# Altium schematic symbol library Turbine_Lib.SchLib: 31 symbols
Pins are listed as number, name and electrical type; pins without a type are passive.

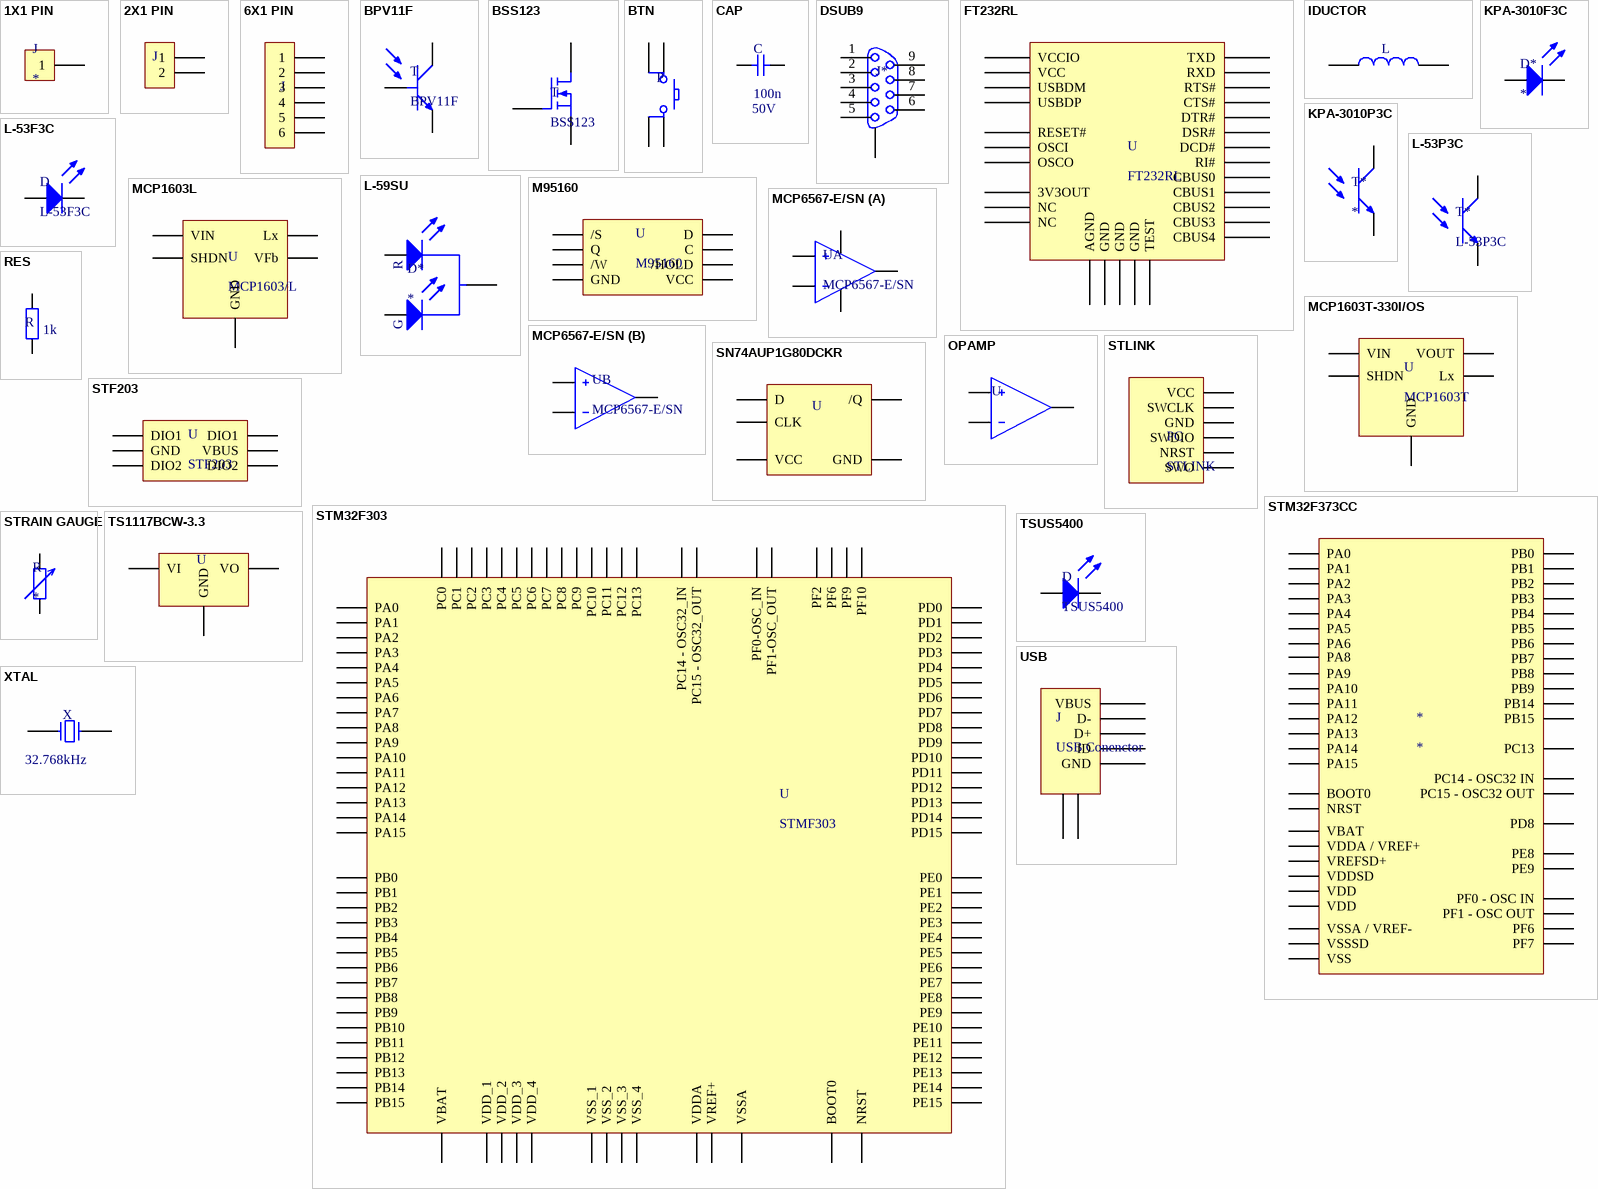
[diagram p0: symbols 1X1 PIN to XTAL]

## 1X1 PIN
designator J
1X1 PIN header
footprint 1X1PINHEAD
footprint 1X1PINHEAD ANGLE
pins: 1

## 2X1 PIN
designator J  (value not drawn)
Pin Header 2x1
footprint 2X1PINHEAD
footprint 2X1PINHEAD ANGLE
pins: 1, 2

## 6X1 PIN
designator J  (value not drawn)
Pin Header 6x1
footprint 2X1PINHEAD
footprint 2X1PINHEAD ANGLE
pins: 1, 2, 3, 4, 5, 6

## BPV11F
designator T
VISHAY - BPV11F - PHOTOTRANSISTOR, T1.3/4; Supplier 1: Farnell; Manufacturer: VISHAY; Manufacturer Part Number: BPV11F; RoHS: YES; Stock 1: 10839; Pricing 1: 1=289,207, 25=243,254, 100=156,408, 500=150,505, 1000=124,789, 3000=95,7, 9000=94,435, 20000=92,748 (EUR); ComponentLink1URL: http://www.farnell.com/datasheets/95314.pdf; ComponentLink1Description: http://www.farnell.com/datasheets/95314.pdf; Supplier Part Number 1: 1045379
footprint 5mm LED TR
pins: B, C, E

## BSS123
designator T
FAIRCHILD SEMICONDUCTOR - BSS123 - MOSFET, N, 100V, SOT-23; Supplier 1: Farnell; Manufacturer: FAIRCHILD SEMICONDUCTOR; Manufacturer Part Number: BSS123; RoHS: YES; Stock 1: 52331; Pricing 1: 5=94,013, 50=58,6, 250=21,838, 500=18,086, 1500=14,334 (EUR); ComponentLink1URL: http://www.farnell.com/datasheets/276131.pdf; ComponentLink1Description: http://www.farnell.com/datasheets/276131.pdf; ComponentLink2URL: http://www.farnell.com/datasheets/410597.pdf; ComponentLink2Description: http://www.farnell.com/datasheets/410597.pdf
footprint SOT23-3; pin to pad D>2 G>0 S>1
pins: D, G, S

## BTN
designator P  (value not drawn)
Push Button
footprint PBUTTON
pins: 1, 2, 3, 4

## CAP
designator C  value 100n  Voltage Rating: 50V  (hidden comment: *)
Capacitor
footprint C1206
pins: 1, 2

## DSUB9
designator J*  (value not drawn)
9Pin D-SUB connector
pins: 1, 2, 3, 4, 5, 6, 7, 8, 9, 10

## FT232RL
designator U
USB-UART Bridge FTDI device; Manufacturer Part Number: FT232RL-REEL; Bridge Type: USB to UART; Supply Voltage Min: 1.8; Supply Voltage Max: 5.25; Interface Case Style: SSOP; No. of Pins: 28; SVHC: No SVHC (15-Jun-2015); Supply Voltage Range: 1.8V to 5.25V, 3.3V to 5.25V<!--FANDB--><div class="features-and-benefits-container"><div class="features-and-benefits-description"><span class="features-benefits-value">The FT232R is the latest device to be added to FTDI's range of USB UART interface Integrated Circuit Devices. The FT232R is a USB to serial UART interface with optional clock generator output, and the new FTDIChip-ID security dongle feature. In addition, asynchronous and synchronous bit bang interface modes are available. USB to serial designs using the FT232R have been further simplified by fully integrating the external EEPROM, clock circuit and USB resistors onto the device.</span></div><div class="features-and-benefits-list"><ul class="features-and-benefits-list-list"><li class="features-and-benefits-list-item">Single chip USB to asynchronous serial data transfer interface</li><li class="features-and-benefits-list-item">Entire USB protocol handled on the chip - No USB-specific firmware programming required</li><li class="features-and-benefits-list-item">UART interface support for 7 or 8 data bits, 1 or 2 stop bits & odd/even/mark/space/no parity</li><li class="features-and-benefits-list-item">Fully assisted hardware or X-On / X-Off software handshaking</li><li class="features-and-benefits-list-item">In-built support for event characters and line break condition</li><li class="features-and-benefits-list-item">New USB FTDIChip-ID feature</li><li class="features-and-benefits-list-item">New configurable CBUS I/O pins</li><li class="features-and-benefits-list-item">Auto transmit buffer control for RS485 applications</li><li class="features-and-benefits-list-item">Transmit and receive LED drive signals</li><li class="features-and-benefits-list-item">New 48MHz, 24MHz,12MHz, and 6; Supplier 1: Farnell; Manufacturer: FTDI; RoHS: YES; Stock 1: 222260; Pricing 1: 1=1260,536, 10=1163,572, 50=1108,766, 100=1049,744, 250=935,916, 500=817,873, 1000=678,75 (EUR); Operating Temperature Min: -40; Operating Temperature Max: 85; Packaging: Cut Tape; MSL: MSL 3 - 168 hours; Operating Temperature Range: -40°C to +85; ComponentLink1URL: http://www.farnell.com/datasheets/1647396.pdf; ComponentLink1Description: http://www.farnell.com/datasheets/1647396.pdf; Supplier Part Number 1: 1146032
footprint SSOP28
pins: 1 TXD, 2 DTR#, 3 RTS#, 4 VCCIO, 5 RXD, 6 RI#, 7 GND, 8 NC, 9 DSR#, 10 DCD#, 11 CTS#, 12 CBUS4, 13 CBUS2, 14 CBUS3, 15 USBDP, 16 USBDM, 17 3V3OUT, 18 GND, 19 RESET#, 20 VCC, 21 GND, 22 CBUS1, 23 CBUS0, 24 NC, 25 AGND, 26 TEST, 27 OSCI, 28 OSCO

## IDUCTOR
designator L  (value not drawn)
Standard Inductor; Value: 1uH; Max Current: 250mA
footprint 1210_L
pins: 1, 2

## KPA-3010F3C
designator D*
KINGBRIGHT - KPA-3010F3C - IR EMITTING DIODE, 940NM, SMD; Supplier 1: Farnell; Manufacturer: KINGBRIGHT; Manufacturer Part Number: KPA-3010F3C; RoHS: YES; Stock 1: 1973; Pricing 1: 1=47,217, 10=42,158, 50=37,226, 100=32,083, 500=31,45 (EUR); ComponentLink1URL: http://www.farnell.com/datasheets/1821262.pdf; ComponentLink1Description: http://www.farnell.com/datasheets/1821262.pdf; Supplier Part Number 1: 2426200
footprint KPA_LED; pin to pad 0>1 1>0
pins: 0, 1

## KPA-3010P3C
designator T*
KINGBRIGHT - KPA-3010P3C - PHOTO TRANSISTOR, NPN, 30V, SMD; Supplier 1: Farnell; Manufacturer: KINGBRIGHT; Manufacturer Part Number: KPA-3010P3C; RoHS: YES; Pricing 1: 1=47,217, 10=42,158, 50=37,226, 100=32,083, 500=31,45 (EUR); ComponentLink1URL: http://www.farnell.com/datasheets/1821264.pdf; ComponentLink1Description: http://www.farnell.com/datasheets/1821264.pdf; Supplier Part Number 1: 2426202; Supplier 2: Farnell
footprint KPA_LED
pins: 0, 1

## L-53F3C
designator D
L-53F3C- IR EMITTING DIODE, 940NM, 5MM; Manufacturer: KINGBRIGHT; Forward Current If(AV): 20; Viewing Angle: 20°; Forward Voltage VF Max: 1.6; Diode Case Style: T-1 3/4 (5; SVHC: No SVHC (15-Jun-2015); No. of Pins: 2; Peak Wavelength: 940; Radiant Intensity: 30mW/Sr<!--FANDB--><div class="features-and-benefits-container"><div class="features-and-benefits-description"><span class="features-benefits-value">The L-53F3C is a 5; Supplier 1: Farnell; Manufacturer Part Number: L-53F3C; RoHS: YES; Stock 1: 8681; Pricing 1: 1=42,58, 10=39,924, 50=37,226, 100=34,359, 250=32,378, 500=27,867, 2000=24,452, 5000=22,007 (EUR); Rise Time: -; Fall Time tf: -; Operating Temperature Min: -40; Operating Temperature Max: 85; Packaging: Each; MSL: -; Operating Temperature Range: -40°C to +85; ComponentLink1URL: http://www.farnell.com/datasheets/1683593.pdf; ComponentLink1Description: http://www.farnell.com/datasheets/1683593.pdf; Supplier Part Number 1: 2290441
footprint 5mm LED
pins: 1, 2

## L-53P3C
designator T*
L-53P3C- PHOTO TRANSISTOR, NPN 5mm; Manufacturer: KINGBRIGHT; Wavelength Typ: 940; Power Consumption: 100; Transistor Case Style: T-1 3/4 (5; No. of Pins: 2; SVHC: No SVHC (15-Jun-2015); Transistor Polarity: NPN<!--FANDB--><div class="features-and-benefits-container"><div class="features-and-benefits-description"><span class="features-benefits-value">The L-53P3C is a 5mm Phototransistor. It is made of NPN silicon. This phototransistor supports 940; Supplier 1: Farnell; Manufacturer Part Number: L-53P3C; RoHS: YES; Stock 1: 8919; Pricing 1: 1=42,58, 10=39,924, 50=37,226, 100=34,359, 250=32,378, 500=27,867, 2000=24,452, 5000=22,007 (EUR); Viewing Angle: -; Packaging: Each; MSL: -; ComponentLink1URL: http://www.farnell.com/datasheets/1683594.pdf; ComponentLink1Description: http://www.farnell.com/datasheets/1683594.pdf; Supplier Part Number 1: 2290444
footprint Model Name (Footprint not found)
pins: 1 C, 2 E

## L-59SU
designator D*
RED/GRE BICOL; Manufacturer: KINGBRIGHT; Manufacturer Part Number: L-59SURKCGKC
footprint 5mmLEDBiCol
pins: 1, 2, 3
text: R; G

## M95160
designator U
SPI Flash Memory 16kbit
footprint SOIC8
pins: 1 /S, 2 Q, 3 /W, 4 GND, 5 D, 6 C, 7 /HOLD, 8 VCC

## MCP1603L
designator U, comment MCP1603/L
Fixed 3V3 output DC-DC converter; Manufacturer: MICROCHIP; Manufacturer Part Number: MCP1603T-250I/OS; Supplier 1: Farnell; RoHS: YES; Stock 1: 1635; Pricing 1: 1=518,548, 10=232,293, 100=209,949 (EUR); ComponentLink1URL: http://www.farnell.com/datasheets/1669947.pdf; ComponentLink1Description: http://www.farnell.com/datasheets/1669947.pdf; ComponentLink2URL: http://www.farnell.com/cad/1545432.zip; ComponentLink2Description: http://www.farnell.com/cad/1545432.zip; Supplier Part Number 1: 1834886RL
footprint SOT23-5
pins: 1 SHDN, 2 GND, 3 Lx, 4 VIN, 5 VFb

## MCP1603T-330I/OS
designator U, comment MCP1603T
MICROCHIP - MCP1603T-330I/OS - V REG, SYNCH BUCK 0.5A, SMD, TSOT-5; Supplier 1: Farnell; Manufacturer: MICROCHIP; Manufacturer Part Number: MCP1603T-330I/OS; RoHS: YES; Stock 1: 312; Pricing 1: 1=357,082, 10=312,394, 25=226,391, 50=207,419, 100=204,468 (EUR); ComponentLink1URL: http://www.farnell.com/datasheets/1669947.pdf; ComponentLink1Description: http://www.farnell.com/datasheets/1669947.pdf; ComponentLink2URL: http://www.farnell.com/cad/1545435.zip; ComponentLink2Description: http://www.farnell.com/cad/1545435.zip
footprint SOT23-5
pins: 1 VIN, 2 GND, 3 SHDN, 4 VOUT, 5 Lx

## MCP6567-E/SN
designator U
MICROCHIP - MCP6567-E/SN - IC, COMPARATOR, DUAL, 1.8V, 8SOIC; Comparator Type: High Speed; No. of Comparators: 2; Response Time: 56; Supply Voltage Range: 1.8V to 5.5; Comparator Case Style: SOIC; No. of Pins: 8; IC Output Type: CMOS, MOS, Open Collector, Open Drain, TTL; SVHC: No SVHC (17-Dec-2014); Approval Category: AEC-Q100; Output Compatibility: CMOS; Supply Current: 100; Supplier 1: Farnell; Manufacturer: MICROCHIP; Manufacturer Part Number: MCP6567-E/SN; RoHS: YES; Stock 1: 827; Pricing 1: 1=220,067, 10=215,008, 100=210,792 (EUR); Operating Temperature Min: -40; Operating Temperature Max: 125; Packaging: Each; MSL: MSL 1 - Unlimited; Amplifier Case Style: SOIC; Termination Type: SMD<!--FANDB--><div class="features-and-benefits-container"></div>; ComponentLink1URL: http://www.farnell.com/datasheets/1791050.pdf; ComponentLink1Description: http://www.farnell.com/datasheets/1791050.pdf
footprint SOIC8
part A pins: 1 VoutA, 2 INA-, 3 INA+, 4 VSS, 8 VCC
part B pins: 5 INB+, 6 INB-, 7 VoutB

## OPAMP
designator U  (value not drawn)
Ideal Operation Amplifier
pins: 5 INB+, 6 INB-, 7 VoutB

## RES
designator R, comment value 1k  (hidden comment: 1206)
1206 Resistor
footprint R1206
pins: 1, 2

## SN74AUP1G80DCKR
designator U  (value not drawn)
TEXAS INSTRUMENTS - SN74AUP1G80DCKR - FLIP FLOP, D-TYPE, 280MHZ, SC-70-5; Supplier 1: Farnell; Manufacturer: TEXAS INSTRUMENTS; Manufacturer Part Number: SN74AUP1G80DCKR; RoHS: YES; Stock 1: 5995; Pricing 1: 3000=77,993, 15000=69,983, 30000=66,61 (EUR); ComponentLink1URL: http://www.farnell.com/datasheets/1888920.pdf; ComponentLink1Description: http://www.farnell.com/datasheets/1888920.pdf; Supplier Part Number 1: 2436894
footprint SOT23-5
pins: 1 D, 2 CLK, 3 GND, 4 /Q, 5 VCC

## STF203
designator U
STF203 - IC, FILTER, USB, ESD PROTECT, SOT236
footprint SOT23-6
pins: 1 DIO1, 2 GND, 3 DIO2, 4 DIO2, 5 VBUS, 6 DIO1

## STLINK
designator PC
STLINK programming tool connector
footprint SWD
pins: 1 VCC, 2 SWCLK, 3 GND, 4 SWDIO, 5 NRST, 6 SWO

## STM32F303
designator U, comment STMF303
32bit ARM Cortex M4 MCU
pins: 1 PE2, 2 PE3, 3 PE4, 4 PE5, 5 PE6, 6 VBAT, 7 PC13, 8 PC14 - OSC32_IN, 9 PC15 - OSC32_OUT, 10 PF9, 11 PF10, 12 PF0-OSC_IN, 13 PF1-OSC_OUT, 14 NRST, 15 PC0, 16 PC1, 17 PC2, 18 PC3, 19 PF2, 20 VSSA, 21 VREF+, 22 VDDA, 23 PA0, 24 PA1, 25 PA2, 26 PA3, 27 VSS_4, 28 VDD_4, 29 PA4, 30 PA5, 31 PA6, 32 PA7, 33 PC4, 34 PC5, 35 PB0, 36 PB1, 37 PB2, 38 PE7, 39 PE8, 40 PE9, 41 PE10, 42 PE11, 43 PE12, 44 PE13, 45 PE14, 46 PE15, 47 PB10, 48 PB11, 49 VSS_2, 50 VDD_2, 51 PB12, 52 PB13, 53 PB14, 54 PB15, 55 PD8, 56 PD9, 57 PD10, 58 PD11, 59 PD12, 60 PD13, 61 PD14, 62 PD15, 63 PC6, 64 PC7, 65 PC8, 66 PC9, 67 PA8, 68 PA9, 69 PA10, 70 PA11, 71 PA12, 72 PA13, 73 PF6, 74 VSS_3, 75 VDD_3, 76 PA14, 77 PA15, 78 PC10, 79 PC11, 80 PC12, 81 PD0, 82 PD1, 83 PD2, 84 PD3, 85 PD4, 86 PD5, 87 PD6, 88 PD7, 89 PB3, 90 PB4, 91 PB5, 92 PB6, 93 PB7, 94 BOOT0, 95 PB8, 96 PB9, 97 PE0, 98 PE1, 99 VSS_1, 100 VDD_1

## STM32F373CC
designator *
footprint LQFP48
pins: 1 VBAT, 2 PC13, 3 PC14 - OSC32 IN, 4 PC15 - OSC32 OUT, 5 PF0 - OSC IN, 6 PF1 - OSC OUT, 7 NRST, 8 VSSA / VREF-, 9 VDDA / VREF+, 10 PA0, 11 PA1, 12 PA2, 13 PA3, 14 PA4, 15 PA5, 16 PA6, 17 VDD, 18 PB0, 19 PB1, 20 PB2, 21 PE8, 22 PE9, 23 VSSSD, 24 VDDSD, 25 VREFSD+, 26 PB14, 27 PB15, 28 PD8, 29 PA8, 30 PA9, 31 PA10, 32 PA11, 33 PA12, 34 PA13, 35 PF6, 36 PF7, 37 PA14, 38 PA15, 39 PB3, 40 PB4, 41 PB5, 42 PB6, 43 PB7, 44 BOOT0, 45 PB8, 46 PB9, 47 VSS, 48 VDD

## STRAIN GAUGE
designator R
straing gauge; Nominal Resistance: 350
pins: 1, 2

## TS1117BCW-3.3
designator U  (value not drawn)
TAIWAN SEMICONDUCTOR - TS1117BCW-3.3 - LDO VOLTAGE REG, 0.8A, 12V, SOT223-3; Supplier 1: Farnell; Manufacturer: TAIWAN SEMICONDUCTOR; Manufacturer Part Number: TS1117BCW-3.3; RoHS: YES; Stock 1: 3747; Pricing 1: 1=364,249, 10=186,762, 100=105,396, 300=94,013, 700=83,052, 2000=51,012, 7000=48,904, 20000=48,482 (EUR); ComponentLink1URL: http://www.farnell.com/datasheets/1766208.pdf; ComponentLink1Description: http://www.farnell.com/datasheets/1766208.pdf; Supplier Part Number 1: 7208359
footprint SOT-223
pins: 1 GND, 2 VO, 3 VI

## TSUS5400
designator D
VISHAY - TSUS5400 - IR EMITTER, 5MM, 950NM; Forward Current If(AV): 100; Rise Time: 800; Viewing Angle: 22°; Forward Voltage VF Max: 1.3; Diode Case Style: T-1 3/4 (5; LED / Lamp Size: 5mm / T1.3/4; No. of Pins: 2; Peak Wavelength: 950; Pitch Spacing: 2.54; Radiant Intensity: 14; Turn Off Time: 0.45; Turn On Time: 0.4; Supplier 1: Farnell; Manufacturer: VISHAY; Manufacturer Part Number: TSUS5400; RoHS: YES; Stock 1: 2198; Pricing 1: 5=59,022, 25=55,649, 100=48,482, 500=43,002, 1000=41,273, 2000=35,202, 4000=34,401, 20000=30,354 (EUR); Fall Time tf: 800; Operating Temperature Min: -40; Operating Temperature Max: 85; Packaging: Each; MSL: -; Angle of Half Sensitivity ±: 22°; Operating Temperature Range: -40°C to +85; Voltage Vf Typ: 1.3; Wavelength Typ: 950; ComponentLink1URL: http://www.farnell.com/datasheets/7976.pdf; ComponentLink1Description: http://www.farnell.com/datasheets/7976.pdf
footprint 5mm LED
pins: A, C

## USB
designator J, comment USB Conenctor
USB connector
footprint USB_MINI
pins: 1 VBUS, 2 D-, 3 D+, 4 ID, 5 GND, 6 SHIELD, 7 SHIELD

## XTAL
designator X  value 32.768kHz  (hidden comment: XTAL)
Quartz Crystal
footprint HC49
pins: 1, 2